# Altium footprint library Components - 17.05.23 - 14.12.PcbLib: 3 footprints
Each footprint in its own frame and in the unit in brackets; x right, y up, seen from the top. Pads: shape width x height; smd on the part's side, far side on the other; paste and mask are expansions set on the pad; w line width, h text height; cw(c..) or ccw(c..) is an arc to the next point about the centre after c.
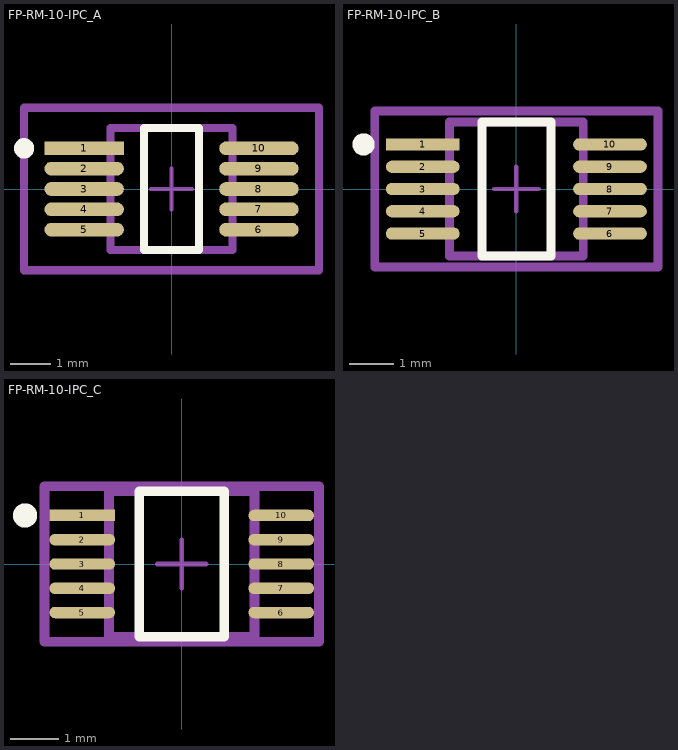
[diagram p0: the footprints below, top view; thin cyan lines are the x and y axes]

## FP-RM-10-IPC_A [mm]
pads (10):
  rect 1.954x0.336 smd paste+0 mask+0: 1(-2.15,1)
  rrect100% 1.954x0.336 smd paste+0 mask+0: 2(-2.15,0.5) 3(-2.15,0) 4(-2.15,-0.5) 5(-2.15,-1) 6(2.15,-1) 7(2.15,-0.5) 8(2.15,0) 9(2.15,0.5) 10(2.15,1)
Top Overlay:
  circle w0.25: c-3.627,1 r0.125
  lines w0.2: -0.673,-1.5 0.673,-1.5 0.673,1.5 -0.673,1.5 -0.673,-1.5
Top Assembly:
  lines w0.2: -3.627,-2 3.627,-2 3.627,2 -3.627,2 -3.627,-2
  text ".Designator" at 0,0.188 h1
Top 3D Body:
  lines w0.2: -1.5,-1.5 1.5,-1.5 1.5,1.5 -1.5,1.5 -1.5,-1.5
Top Courtyard:
  lines w0.2: -3.627,-2 3.627,-2 3.627,2 -3.627,2 -3.627,-2
Top Component Center:
  lines w0.1: -0.5,0 0.5,0 ; 0,-0.5 0,0.5
3D body "IC_Analog_Devices_ADG804YRMZ-REEL7_eec.STEP": height 0.25, standoff 0, extent -3.627,-2 3.627,2

## FP-RM-10-IPC_B [mm]
pads (10):
  rect 1.654x0.276 smd paste+0 mask+0: 1(-2.1,1)
  rrect100% 1.654x0.276 smd paste+0 mask+0: 2(-2.1,0.5) 3(-2.1,0) 4(-2.1,-0.5) 5(-2.1,-1) 6(2.1,-1) 7(2.1,-0.5) 8(2.1,0) 9(2.1,0.5) 10(2.1,1)
Top Overlay:
  circle w0.25: c-3.427,1 r0.125
  lines w0.2: -0.773,-1.5 0.773,-1.5 0.773,1.5 -0.773,1.5 -0.773,-1.5
Top Assembly:
  lines w0.2: -3.177,-1.75 3.177,-1.75 3.177,1.75 -3.177,1.75 -3.177,-1.75
  text ".Designator" at 0,0.188 h1
Top 3D Body:
  lines w0.2: -1.5,-1.5 1.5,-1.5 1.5,1.5 -1.5,1.5 -1.5,-1.5
Top Courtyard:
  lines w0.2: -3.177,-1.75 3.177,-1.75 3.177,1.75 -3.177,1.75 -3.177,-1.75
Top Component Center:
  lines w0.1: -0.5,0 0.5,0 ; 0,-0.5 0,0.5
3D body "IC_Analog_Devices_ADG804YRMZ-REEL7_eec.STEP": height 0.25, standoff 0, extent -3.177,-1.75 3.177,1.75

## FP-RM-10-IPC_C [mm]
pads (10):
  rect 1.354x0.236 smd paste+0 mask+0: 1(-2.05,1)
  rrect100% 1.354x0.236 smd paste+0 mask+0: 2(-2.05,0.5) 3(-2.05,0) 4(-2.05,-0.5) 5(-2.05,-1) 6(2.05,-1) 7(2.05,-0.5) 8(2.05,0) 9(2.05,0.5) 10(2.05,1)
Top Overlay:
  circle w0.25: c-3.227,1 r0.125
  lines w0.2: -0.873,-1.5 0.873,-1.5 0.873,1.5 -0.873,1.5 -0.873,-1.5
Top Assembly:
  lines w0.2: -2.827,-1.6 2.827,-1.6 2.827,1.6 -2.827,1.6 -2.827,-1.6
  text ".Designator" at 0,0.188 h1
Top 3D Body:
  lines w0.2: -1.5,-1.5 1.5,-1.5 1.5,1.5 -1.5,1.5 -1.5,-1.5
Top Courtyard:
  lines w0.2: -2.827,-1.6 2.827,-1.6 2.827,1.6 -2.827,1.6 -2.827,-1.6
Top Component Center:
  lines w0.1: -0.5,0 0.5,0 ; 0,-0.5 0,0.5
3D body "IC_Analog_Devices_ADG804YRMZ-REEL7_eec.STEP": height 0.25, standoff 0, extent -2.827,-1.6 2.827,1.6